# Altium schematic symbol library Schematic.SchLib: 200 symbols (part 2 of 2)
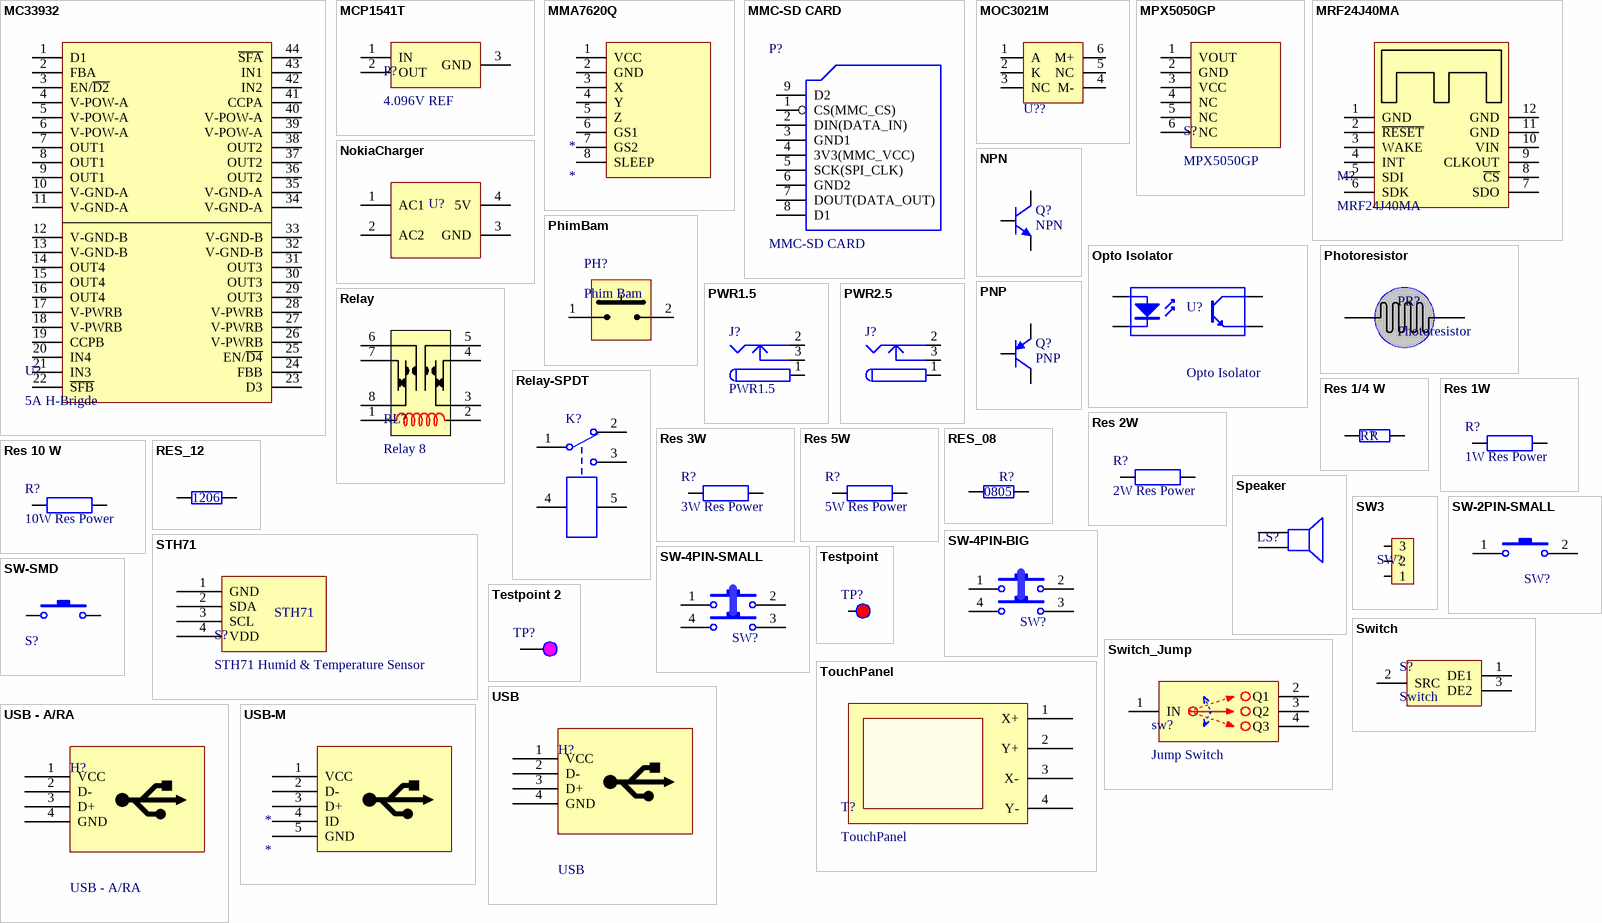
[diagram p6: symbols MC33932 to USB-M]

## NPN
designator Q?
NPN General; Published: 8-Jun-2000; LatestRevisionDate: 15-Jan-2003; LatestRevisionNote: PCB Footprint 'BCY-W3/D4.7' replaced; DatasheetDocument: 1997; PackageDocument: Sep-1998; PackageReference: TO-92A; Publisher: Altium Limited; Code_JEDEC: TO-92A; ComponentLink1Description: Manufacturer Link; ComponentLink1URL: http://www.fairchildsemi.com/; ComponentLink2Description: Datasheet; ComponentLink2URL: http://www.fairchildsemi.com/ds/2N%2F2N3904.pdf
footprint TRAN-LOWPOWER (TO, Flat Index; 3 In-Line, Axial Leads; Body Dia. 4.5mm; Leads 0.51 x 0.48 mm (max))
pins: 1 E, 2 C, 3 B

## Opto Isolator
designator U?
4-Pin Phototransistor Optocoupler; Published: 24-Mar-1999; LatestRevisionDate: 04-Mar-2005; LatestRevisionNote: Sch pins 3 & 4 Swapped.; DatasheetDocument: Nov-2003; PackageReference: DIP-4; Publisher: Altium Limited
footprint PhotoCoupler (Opto quang)
pins: 1 A "Anode", 2 K "Cathode", 3 E "Emitter", 4 C "Collector"

## PhimBam
designator PH?, comment Phim Bam
pins: 1, 2

## Photoresistor
designator PR?
Creator: Bien Nguyen
footprint Photoresistor
pins: 1, 2

## PNP
designator Q?
PNP General; Published: 8-Jun-2000; LatestRevisionDate: 15-Jan-2003; LatestRevisionNote: PCB Footprint 'BCY-W3/D4.7' replaced; DatasheetDocument: 1997; PackageDocument: Sep-1998; PackageReference: TO-92A; Publisher: Altium Limited; Code_JEDEC: TO-92A; ComponentLink1Description: Manufacturer Link; ComponentLink1URL: http://www.fairchildsemi.com/; ComponentLink2Description: Datasheet; ComponentLink2URL: http://www.fairchildsemi.com/ds/2N%2F2N3906.pdf
footprint TRAN-LOWPOWER (TO, Flat Index; 3 In-Line, Axial Leads; Body Dia. 4.5mm; Leads 0.51 x 0.48 mm (max))
pins: 1 E, 2 C, 3 B

## PWR1.5
designator J?
Low Voltage Power Supply Connector; Published: 17-Dec-2003; DatasheetDocument: 09-May-2002; Publisher: Altium Limited; ComponentLink1Description: Manufacturer Link; ComponentLink1URL: http://domino.kycon.com/internet/Products.html
footprint PW-J-1MM (Power Header 1mm)
signal-integrity model Connector
pins: 1 (power), 2 (power), 3 (power)

## PWR2.5
designator J?
Low Voltage Power Supply Connector; Published: 17-Dec-2003; DatasheetDocument: 09-May-2002; Publisher: Altium Limited; ComponentLink1Description: Manufacturer Link; ComponentLink1URL: http://domino.kycon.com/internet/Products.html
footprint PW-J-2MM (Power Header 2mm)
signal-integrity model Connector
pins: 1 (power), 2 (power), 3 (power)

## Relay
designator RL?, comment Relay 8
footprint RELAY
pins: 1, 2, 3, 4, 5, 6, 7, 8

## Relay-SPDT
designator K?
Single-Pole Dual-Throw Relay; Published: 24-Mar-1999; LatestRevisionDate: 17-Jul-2002; LatestRevisionNote: Re-released for DXP Platform.; PackageReference: MODULE5B; Publisher: Altium Limited
footprint MODULE5B (DIP; 5 Round Pins; Row Space 15.24 mm; Pitch 2.54 mm)
simulation model SPDTRELAY (Spice Subcircuit)
pins: 1, 2, 3, 4, 5

## Res 1/4 W
designator R?, comment value R  (hidden comment: R0.4W)
Resistor; Published: 8-Jun-2000; LatestRevisionDate: 17-Jul-2002; LatestRevisionNote: Re-released for DXP Platform.; PackageReference: AXIAL-0.4; Publisher: Altium Limited
footprint DIEN TRO 1/4 W
simulation model RESISTOR (Resistor)
signal-integrity model Res
pins: 1, 2

## Res 1W
designator R?, comment 1W Res Power
Creator: Nguyen Ba Bien
footprint DIEN TRO 1W (tube) (Dien tro 1W hinh ong)
pins: 1, 2

## Res 2W
designator R?, comment 2W Res Power
Creator: Nguyen Ba Bien
footprint DIEN TRO 2W
pins: 1, 2

## Res 3W
designator R?, comment 3W Res Power
Creator: Nguyen Ba Bien
footprint DIEN TRO 3W (tube) (Dien tro 3W dang ong tru)
pins: 1, 2

## Res 5W
designator R?, comment 5W Res Power
Creator: Nguyen Ba Bien
footprint DIEN TRO 5W
pins: 1, 2

## Res 10 W
designator R?, comment 10W Res Power
Creator: Nguyen Ba Bien
footprint DIEN TRO 10W
pins: 1, 2

## RES_08
designator R?  value 0805  (hidden comment: RES_08)
Published: 8-Jun-2000; LatestRevisionDate: 17-Jul-2002; LatestRevisionNote: Re-released for DXP Platform.; PackageReference: AXIAL-0.4; Publisher: Altium Limited
simulation model RESISTOR (Resistor)
signal-integrity model Res
footprint DIEN TRO 0805 (Chip Resistor; Body 2.0 x 1.3 mm (LxW typ))
pins: 1, 2

## RES_12
designator R?  value 1206  (hidden comment: RES_12)
Published: 8-Jun-2000; LatestRevisionDate: 17-Jul-2002; LatestRevisionNote: Re-released for DXP Platform.; PackageReference: AXIAL-0.4; Publisher: Altium Limited
simulation model RESISTOR (Resistor)
signal-integrity model Res
footprint R1206
pins: 1, 2

## Speaker
designator LS?
Loudspeaker; Published: 24-Mar-1999; LatestRevisionDate: 17-Jul-2002; LatestRevisionNote: Re-released for DXP Platform.; PackageReference: PIN2; Publisher: Altium Limited
footprint SPEAKER
pins: 1, 2

## STH71
designator S?, comment STH71 Humid & Temperature Sensor
footprint HDR1X4 (Connector; Header; 4 Position)
pins: 1 GND, 2 SDA, 3 SCL, 4 VDD

## SW3
designator SW?  (value not drawn)
pins: 1, 2, 3

## SW-2PIN-SMALL
designator SW?, comment SW-2P-S  (value not drawn)
Switch Small 2 Pin; Published: 24-Mar-1999; LatestRevisionDate: 17-Jul-2002; LatestRevisionNote: Re-released for DXP Platform.; PackageReference: SPST-2; Publisher: Altium Limited
footprint SW-2P-S
pins: 1, 2

## SW-4PIN-BIG
designator SW?, comment SW-4P-B  (value not drawn)
Switch Big 4 Pin; Published: 24-Mar-1999; LatestRevisionDate: 17-Jul-2002; LatestRevisionNote: Re-released for DXP Platform.; PackageReference: SPST-2; Publisher: Altium Limited
footprint SW-4P-B (Nut bam lon)
pins: 1, 2, 3, 4

## SW-4PIN-SMALL
designator SW?, comment SW-4P-S  (value not drawn)
Switch Small 4 Pin; Published: 24-Mar-1999; LatestRevisionDate: 17-Jul-2002; LatestRevisionNote: Re-released for DXP Platform.; PackageReference: SPST-2; Publisher: Altium Limited
footprint SW-4P-S
pins: 1, 2, 3, 4

## SW-SMD
designator S?  (value not drawn)
Switch; Published: 24-Mar-1999; LatestRevisionDate: 17-Jul-2002; LatestRevisionNote: Re-released for DXP Platform.; PackageReference: SPST-2; Publisher: Altium Limited
footprint SW-SMD (Switch SMD type)
pins: 1, 2

## Switch
designator S?
footprint Switch
pins: 1 DE1, 2 SRC, 3 DE2, 4 hidden to GND, 5 hidden to GND

## Switch_Jump
designator sw?, comment Jump Switch
footprint SW-Jump
pins: 1 IN, 2 Q1, 3 Q2, 4 Q3

## Testpoint
designator TP?  (value not drawn)
footprint TP (TestPoint)
pins: 1

## Testpoint 2
designator TP?  (value not drawn)
footprint TP - 2 (TestPoint)
pins: 1

## TouchPanel
designator T?
4 wires touch panel; Creator: Nguyen Ba Bien; Date Created: 14-04-2010
footprint HDR1X4H (Connector; Header; 4 Position; Right Angle)
pins: 1 X+, 2 Y+, 3 X-, 4 Y-

## USB
designator H?
footprint USB-B-STRANGE (USB Type B - STRANGE - Slave Device)
pins: 1 VCC, 2 D-, 3 D+, 4 GND, 5 hidden, 6 hidden

## USB - A/RA
designator H?
footprint USB-A-RA (USB Type A)
pins: 1 VCC, 2 D-, 3 D+, 4 GND, 5 hidden, 6 hidden

## USB-M
designator *
footprint USB-B-Mini
pins: 1 VCC, 2 D-, 3 D+, 4 ID, 5 GND

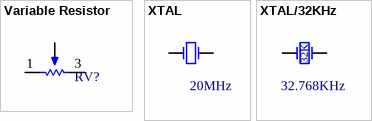
[diagram p5: symbols Variable Resistor to XTAL/32KHz]

## Variable Resistor
designator RV?, comment RV20K  (value not drawn)
Variable Resistor; Sim Note: Enter the Resistance value and the set point into parameter fields.; Set Position: 0.5; Published: 8-Jun-2000; LatestRevisionDate: 17-Jul-2002; LatestRevisionNote: Re-released for DXP Platform.; PackageReference: VR5; Publisher: Altium Limited
footprint RVAR10K (Bien tro vi chinh)
pins: 1, 2, 3
1 alternate drawing of the same symbol

## XTAL
designator Y?, comment 20MHz
Crystal Oscillator; Published: 8-Jun-2000; LatestRevisionDate: 17-Jul-2002; LatestRevisionNote: Re-released for DXP Platform.; PackageReference: R38; Publisher: Altium Limited
footprint XTAL
pins: 1 OSC1, 2 OSC2

## XTAL/32KHz
designator Y?, comment 32.768KHz
Crystal Oscillator; Published: 8-Jun-2000; LatestRevisionDate: 17-Jul-2002; LatestRevisionNote: Re-released for DXP Platform.; PackageReference: R38; Publisher: Altium Limited
footprint XTAL32K (Connector; Header; 2 Position)
pins: 0 hidden to GND, 1 OSC1, 2 OSC2
text: 32K